# Altium footprint library Capacitors.PcbLib: 22 footprints (part 2 of 2)
Each footprint in its own frame and in the unit in brackets; x right, y up, seen from the top. Pads: shape width x height; smd on the part's side, far side on the other; paste and mask are expansions set on the pad; w line width, h text height; cw(c..) or ccw(c..) is an arc to the next point about the centre after c.
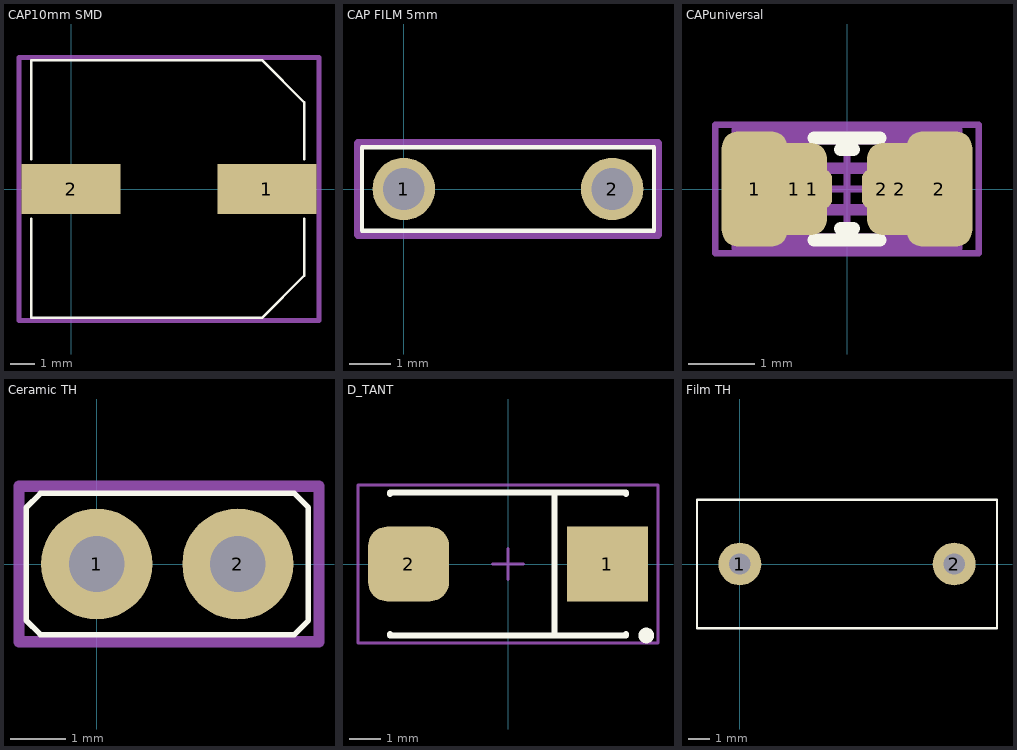
[diagram p1: the footprints below, top view; thin cyan lines are the x and y axes]

## CAP10mm SMD [mm]
height 10
pads (2):
  rect 4x2 smd: 1(7.9,0) 2(0,0)
Top Overlay:
  lines w0.1: -1.6,-1.2 -1.6,-5.2 7.7,-5.2 9.4,-3.5 9.4,-1.2 ; -1.6,1.2 -1.6,5.2 7.7,5.2 9.4,3.5 9.4,1.2
Mechanical 15:
  lines w0.2: -2.1,-5.3 -2.1,4.1 -2.1,5.3 -1.7,5.3 10,5.3 10,-4.3 10,-5.3 -0.2,-5.3 -2.1,-5.3
3D body "User Library-CC1010.step": height 10.41, standoff 0, extent -1.6,-5.2 9.4,5.2

## CAP FILM 5mm [mm]
pads (2):
  round 1.5 hole 1: 1(0,0) 2(5,0)
Top Overlay:
  lines w0.1: -1,-1 6,-1 6,1 -1,1 -1,-1
Mechanical 15:
  lines w0.2: -1.1,-1.1 -1.1,1.1 6.1,1.1 6.1,-0.7 6.1,-1.1 3.5,-1.1 -1.1,-1.1

## CAPuniversal [mm] "Chip Capacitor, 2-Leads, All sizes"
height 1.5
pads (6):
  rrect50% 1x1.75 smd: 1(-1.4,0) 2(1.4,0)
  rrect50% 1x1.4 smd: 1(-0.8,0) 2(0.8,0)
  rrect50% 0.6x0.6 smd: 1(-0.525,0) 2(0.525,0)
Top Overlay:
  lines w0.2: -0.5,-0.775 0.5,-0.775 ; -0.5,0.775 0.5,0.775 ; -0.1,-0.6 0.1,-0.6 ; -0.1,0.6 0.1,0.6
Mechanical 13:
  lines w0.1: -1.7,-0.9 -1.7,0.9 1.7,0.9 1.7,-0.9 -1.7,-0.9 ; -1.105,-0.725 -1.105,0.725 1.105,0.725 1.105,-0.725 -1.105,-0.725 ; -0.55,-0.275 0.55,-0.275 0.55,0.275 -0.55,0.275 -0.55,-0.275
Mechanical 15:
  lines w0.1: -0.275,0 0.275,0 ; 0,-0.275 0,0.275 ; -2,-0.975 -2,0.975 2,0.975 2,-0.975 -2,-0.975 ; -1.425,-0.8 -1.425,0.8 1.425,0.8 1.425,-0.8 -1.425,-0.8 ; -0.925,-0.35 0.925,-0.35 0.925,0.35 -0.925,0.35 -0.925,-0.35 ; -0.5,0 0.5,0 -0.5,0 ; 0,-0.5 0,0.5 0,-0.5
3D body "1206 SMD Capacitor.step": height 1, standoff 0, extent -1.6,-0.8 1.6,0.8

## Ceramic TH [mm]
pads (2):
  round 2 hole 1: 1(0,0) 2(2.54,0)
Top Overlay:
  lines w0.1: -1.27,-1.016 -1.016,-1.27 3.556,-1.27 3.81,-1.016 3.81,1.016 3.556,1.27 -1.016,1.27 -1.27,1.016 -1.27,-1.016
Mechanical 15:
  lines w0.2: -1.4,-1.4 -1.4,1.4 4,1.4 4,-1.3 4,-1.4 -0.1,-1.4 -1.4,-1.4

## D_TANT [mm] "Capacitor, SM Tantalum; Body 7.3 x 4.3 mm (LxW typ)"
height 3.1
pads (2):
  rect 2.6x2.4 smd: 1(3.2,0)
  rrect50% 2.6x2.4 smd: 2(-3.2,0)
Top Overlay:
  circle w0.25: c4.45,-2.3 r0.125
  lines w0.2: -3.8,-2.25 -3.8,-2.3 3.8,-2.3 3.8,-2.25 ; -3.8,2.25 -3.8,2.3 3.8,2.3 3.8,2.25 ; 1.5,-2.3 1.5,2.3
Mechanical 15:
  lines w0.1: -0.5,0 0.5,0 ; 0,-0.5 0,0.5 ; -4.826,-2.54 -4.826,2.54 4.826,2.54 4.826,-2.54 -4.826,-2.54
3D body "User Library-CaseD_7343-31.step": height 2.8, standoff 0, extent -3.65,-2.15 3.65,2.15

## Film TH [mm]
pads (2):
  round 2 hole 1: 1(0,0) 2(10,0)
Top Overlay:
  lines w0.1: -2,-3 -2,3 12,3 12,-3 -2,-3